# Altium footprint library Connectors.PcbLib: 58 footprints (part 4 of 4)
Each footprint in its own frame and in the unit in brackets; x right, y up, seen from the top. Pads: shape width x height; smd on the part's side, far side on the other; paste and mask are expansions set on the pad; w line width, h text height; cw(c..) or ccw(c..) is an arc to the next point about the centre after c.
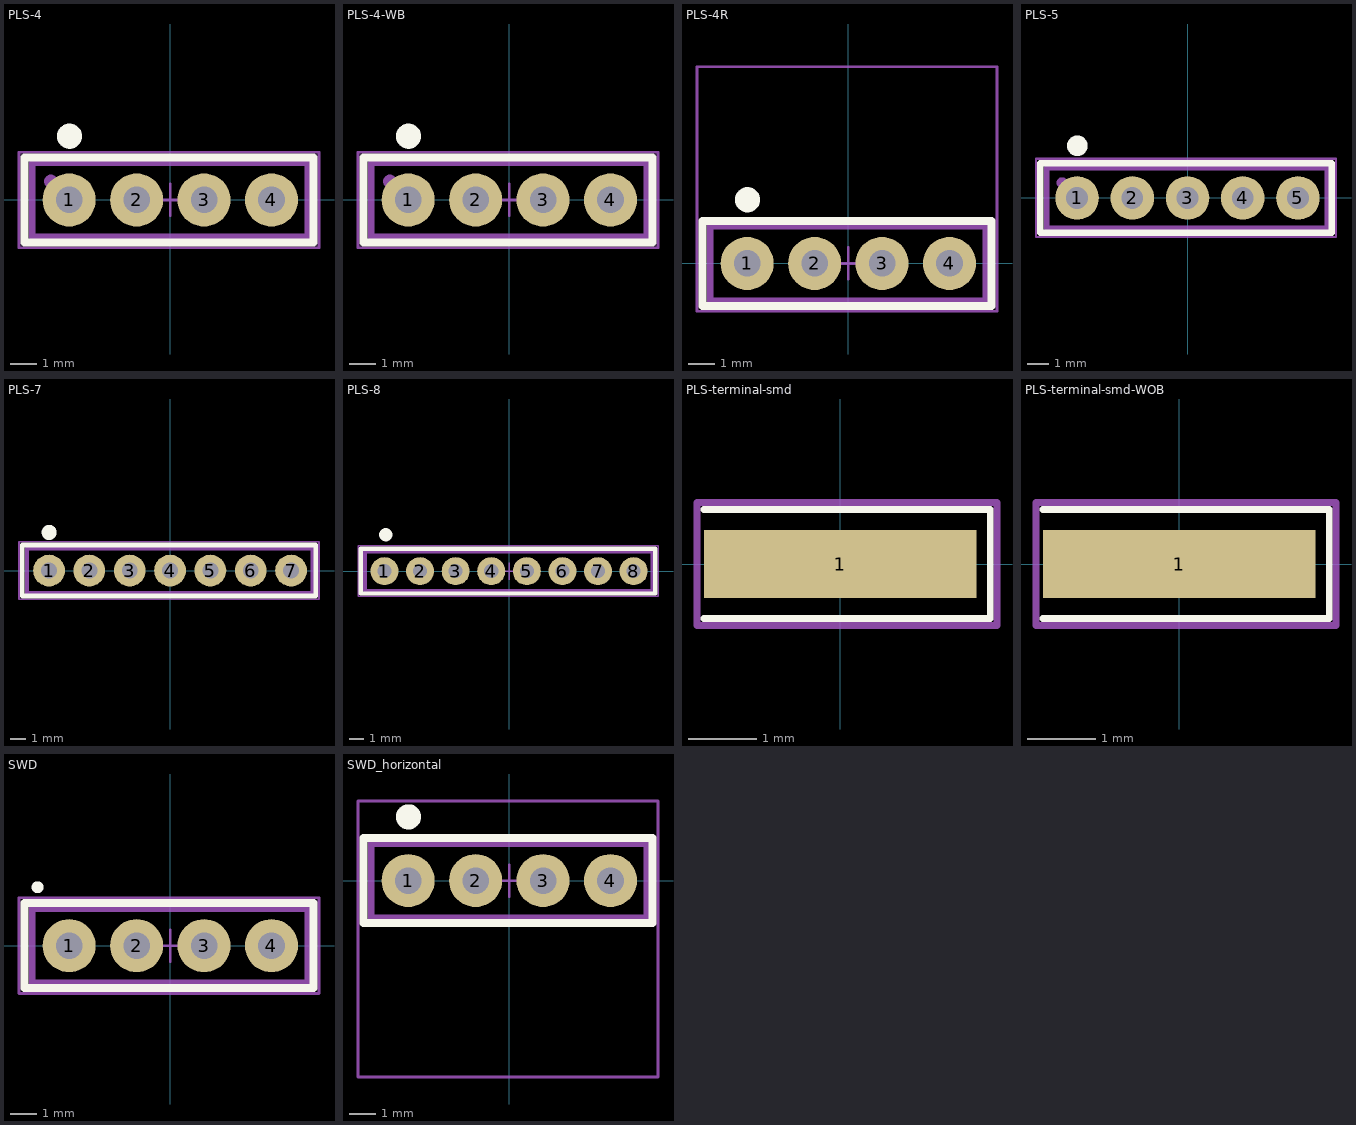
[diagram p3: the footprints below, top view; thin cyan lines are the x and y axes]

## PLS-4 [mm] "PLS 2.54mm pitch"
pads (4):
  round 2 hole 1: 1(-3.81,0) 2(-1.27,0) 3(1.27,0) 4(3.81,0)
Top Overlay:
  circle w0.5: c-3.8,2.4 r0.224
  lines w0.3: -5.5,-1.6 -5.5,1.6 5.2,1.6 5.4,1.6 5.4,-1.6 5.2,-1.6 -5.5,-1.6
AssemblyTop:
  circle w0.3: c-4.5,0.7 r0.1
  lines w0.254: -5.2,-1.4 -5.2,1.4 5.19,1.4 5.19,-1.4 -5.2,-1.4
InstallationTop:
  lines w0.1: -0.6,0 0.6,0 ; 0,-0.6 0,0.6 ; -5.7,-1.8 5.6,-1.8 5.6,1.8 -5.7,1.8 -5.7,-1.8
3D body "User Library-PLS-1.STEP": height 8.44, standoff -3, extent -5.08,-1.27 -2.54,1.27
3D body "User Library-PLS-1.STEP": height 8.44, standoff -3, extent -2.54,-1.27 0,1.27
3D body "User Library-PLS-1.STEP": height 8.44, standoff -3, extent 0,-1.27 2.54,1.27
3D body "User Library-PLS-1.STEP": height 8.44, standoff -3, extent 2.54,-1.27 5.08,1.27

## PLS-4-WB [mm] "PLS 2.54mm pitch"
pads (4):
  round 2 hole 1: 1(-3.81,0) 2(-1.27,0) 3(1.27,0) 4(3.81,0)
Top Overlay:
  circle w0.5: c-3.8,2.4 r0.224
  lines w0.3: -5.5,-1.6 5.2,-1.6 5.4,-1.6 5.4,1.6 5.2,1.6 -5.5,1.6 -5.5,-1.6
AssemblyTop:
  circle w0.3: c-4.5,0.7 r0.1
  lines w0.254: -5.2,-1.4 5.19,-1.4 5.19,1.4 -5.2,1.4 -5.2,-1.4
InstallationTop:
  lines w0.1: -0.6,0 0.6,0 ; 0,-0.6 0,0.6 ; -5.7,-1.8 -5.7,1.8 5.6,1.8 5.6,-1.8 -5.7,-1.8

## PLS-4R [mm]
pads (4):
  round 2 hole 1: 1(-3.81,0) 2(-1.27,0) 3(1.27,0) 4(3.81,0)
Top Overlay:
  circle w0.5: c-3.8,2.4 r0.224
  lines w0.3: -5.5,-1.6 -5.5,1.6 5.2,1.6 5.4,1.6 5.4,-1.6 5.2,-1.6 -5.5,-1.6
AssemblyTop:
  lines w0.254: -5.2,-1.4 -5.2,1.4 5.19,1.4 5.19,-1.4 -5.2,-1.4
InstallationTop:
  lines w0.1: -0.6,0 0.6,0 ; 0,-0.6 0,0.6 ; -5.7,-1.8 5.6,-1.8 5.6,7.41 -5.7,7.41 -5.7,-1.8
3D body "User Library-PLS-4R gold.step": height 5.45, standoff -3, extent -5.08,-1.26 5.08,7.36

## PLS-5 [mm] "PLS 2.54mm pitch"
pads (5):
  round 2 hole 1: 1(-5.08,0) 2(-2.54,0) 3(0,0) 4(2.54,0) 5(5.08,0)
Top Overlay:
  circle w0.5: c-5.07,2.4 r0.224
  lines w0.3: -6.77,-1.6 -6.77,1.6 3.93,1.6 6.63,1.6 6.63,-1.6 3.93,-1.6 -6.77,-1.6
AssemblyTop:
  circle w0.3: c-5.77,0.7 r0.1
  lines w0.254: -6.47,-1.4 -6.47,1.4 6.43,1.4 6.43,-1.4 -6.47,-1.4
InstallationTop:
  lines w0.1: -0.57,0 0.63,0 ; 0.03,-0.6 0.03,0.6 ; -6.97,-1.8 6.83,-1.8 6.83,1.8 -6.97,1.8 -6.97,-1.8
3D body "User Library-PLS-1.STEP": height 8.44, standoff -3, extent 3.81,-1.27 6.35,1.27
3D body "User Library-PLS-1.STEP": height 8.44, standoff -3, extent -6.35,-1.27 -3.81,1.27
3D body "User Library-PLS-1.STEP": height 8.44, standoff -3, extent -3.81,-1.27 -1.27,1.27
3D body "User Library-PLS-1.STEP": height 8.44, standoff -3, extent -1.27,-1.27 1.27,1.27
3D body "User Library-PLS-1.STEP": height 8.44, standoff -3, extent 1.27,-1.27 3.81,1.27

## PLS-7 [mm] "PLS 2.54mm pitch"
pads (7):
  round 2 hole 1: 1(-7.62,0) 2(-5.08,0) 3(-2.54,0) 4(0,0) 5(2.54,0) 6(5.08,0) 7(7.62,0)
Top Overlay:
  circle w0.5: c-7.61,2.4 r0.224
  lines w0.3: -9.31,-1.6 -9.31,1.6 9.18,1.6 9.18,-1.6 -9.31,-1.6
AssemblyTop:
  lines w0.254: -9.01,-1.4 -9.01,1.4 8.98,1.4 8.98,-1.4 -9.01,-1.4
InstallationTop:
  lines w0.1: -0.6,0 0.6,0 ; 0,-0.6 0,0.6 ; -9.51,-1.8 9.38,-1.8 9.38,1.8 -9.51,1.8 -9.51,-1.8
3D body "User Library-PLS-1.STEP": height 8.44, standoff -3, extent -8.89,-1.27 -6.35,1.27
3D body "User Library-PLS-1.STEP": height 8.44, standoff -3, extent -6.35,-1.27 -3.81,1.27
3D body "User Library-PLS-1.STEP": height 8.44, standoff -3, extent -3.81,-1.27 -1.27,1.27
3D body "User Library-PLS-1.STEP": height 8.44, standoff -3, extent -1.27,-1.27 1.27,1.27
3D body "User Library-PLS-1.STEP": height 8.44, standoff -3, extent 1.27,-1.27 3.81,1.27
3D body "User Library-PLS-1.STEP": height 8.44, standoff -3, extent 3.81,-1.27 6.35,1.27
3D body "User Library-PLS-1.STEP": height 8.44, standoff -3, extent 6.35,-1.27 8.89,1.27

## PLS-8 [mm] "PLS 2.54mm pitch"
pads (8):
  round 2 hole 1: 1(-8.89,0) 2(-6.35,0) 3(-3.81,0) 4(-1.27,0) 5(1.27,0) 6(3.81,0) 7(6.35,0) 8(8.89,0)
Top Overlay:
  circle w0.5: c-8.8,2.6 r0.224
  lines w0.3: -10.58,-1.6 -10.58,1.6 10.43,1.6 10.43,-1.6 -10.58,-1.6
AssemblyTop:
  lines w0.254: -10.28,-1.4 -10.28,1.4 10.23,1.4 10.23,-1.4 -10.28,-1.4
InstallationTop:
  lines w0.1: -0.6,0 0.6,0 ; 0,-0.6 0,0.6 ; -10.78,-1.8 10.63,-1.8 10.63,1.8 -10.78,1.8 -10.78,-1.8
3D body "User Library-PLS-1.STEP": height 8.44, standoff -3, extent 7.62,-1.27 10.16,1.27
3D body "User Library-PLS-1.STEP": height 8.44, standoff -3, extent -10.16,-1.27 -7.62,1.27
3D body "User Library-PLS-1.STEP": height 8.44, standoff -3, extent -7.62,-1.27 -5.08,1.27
3D body "User Library-PLS-1.STEP": height 8.44, standoff -3, extent -5.08,-1.27 -2.54,1.27
3D body "User Library-PLS-1.STEP": height 8.44, standoff -3, extent -2.54,-1.27 0,1.27
3D body "User Library-PLS-1.STEP": height 8.44, standoff -3, extent 0,-1.27 2.54,1.27
3D body "User Library-PLS-1.STEP": height 8.44, standoff -3, extent 2.54,-1.27 5.08,1.27
3D body "User Library-PLS-1.STEP": height 8.44, standoff -3, extent 5.08,-1.27 7.62,1.27

## PLS-terminal-smd [mm] "PLS 2.54mm pitch"
pads (1):
  rect 4x1 smd: 1(0,0)
Top Overlay:
  lines w0.1: -2,-0.8 2.2,-0.8 2.2,0.8 -2,0.8
InstallationTop:
  lines w0.1: -2.1,-0.9 2.3,-0.9 2.3,0.9 -2.1,0.9 -2.1,-0.9
3D body "pls_terminal.STEP": height 0.64, standoff 0, extent -9.8,-0.32 1.8,0.32

## PLS-terminal-smd-WOB [mm] "PLS 2.54mm pitch"
pads (1):
  rect 4x1 smd: 1(0,0)
Top Overlay:
  lines w0.1: -2,-0.8 2.2,-0.8 2.2,0.8 -2,0.8
InstallationTop:
  lines w0.1: -2.1,-0.9 -2.1,0.9 2.3,0.9 2.3,-0.9 -2.1,-0.9

## SWD [mm]
pads (4):
  round 2 hole 1: 1(-3.81,0) 2(-1.27,0) 3(1.27,0) 4(3.81,0)
Top Overlay:
  circle w0.25: c-5,2.2 r0.1
  lines w0.3: -5.5,-1.6 -5.5,1.6 5.2,1.6 5.4,1.6 5.4,-1.6 5.2,-1.6 -5.5,-1.6
AssemblyTop:
  lines w0.254: -5.2,-1.4 5.19,-1.4 5.19,1.4 -5.2,1.4 -5.2,-1.4
InstallationTop:
  lines w0.1: -0.6,0 0.6,0 ; 0,-0.6 0,0.6 ; -5.7,-1.8 -5.7,1.8 5.6,1.8 5.6,-1.8 -5.7,-1.8
3D body "User Library-PLS-1.STEP": height 8.44, standoff -3, extent 2.54,-1.27 5.08,1.27
3D body "User Library-PLS-1.STEP": height 8.44, standoff -3, extent 0,-1.27 2.54,1.27
3D body "User Library-PLS-1.STEP": height 8.44, standoff -3, extent -2.54,-1.27 0,1.27
3D body "User Library-PLS-1.STEP": height 8.44, standoff -3, extent -5.08,-1.27 -2.54,1.27

## SWD_horizontal [mm]
pads (4):
  round 2 hole 1: 1(-3.81,0) 2(-1.27,0) 3(1.27,0) 4(3.81,0)
Top Overlay:
  circle w0.5: c-3.8,2.4 r0.224
  lines w0.3: -5.5,-1.6 -5.5,1.6 5.2,1.6 5.4,1.6 5.4,-1.6 5.2,-1.6 -5.5,-1.6
AssemblyTop:
  lines w0.254: -5.2,-1.4 -5.2,1.4 5.19,1.4 5.19,-1.4 -5.2,-1.4
InstallationTop:
  lines w0.1: -0.6,0 0.6,0 ; 0,-0.6 0,0.6 ; -5.7,-7.4 5.6,-7.4 5.6,3 -5.7,3 -5.7,-7.4
3D body "User Library-PLS-1R.step": height 5.45, standoff -3, extent -5.08,-7.35 -2.54,1.27
3D body "User Library-PLS-1R.step": height 5.45, standoff -3, extent -2.54,-7.35 0,1.27
3D body "User Library-PLS-1R.step": height 5.45, standoff -3, extent 0.02,-7.35 2.56,1.27
3D body "User Library-PLS-1R.step": height 5.45, standoff -3, extent 2.54,-7.35 5.08,1.27